# EAGLE library part MUSES72320 (library gael)
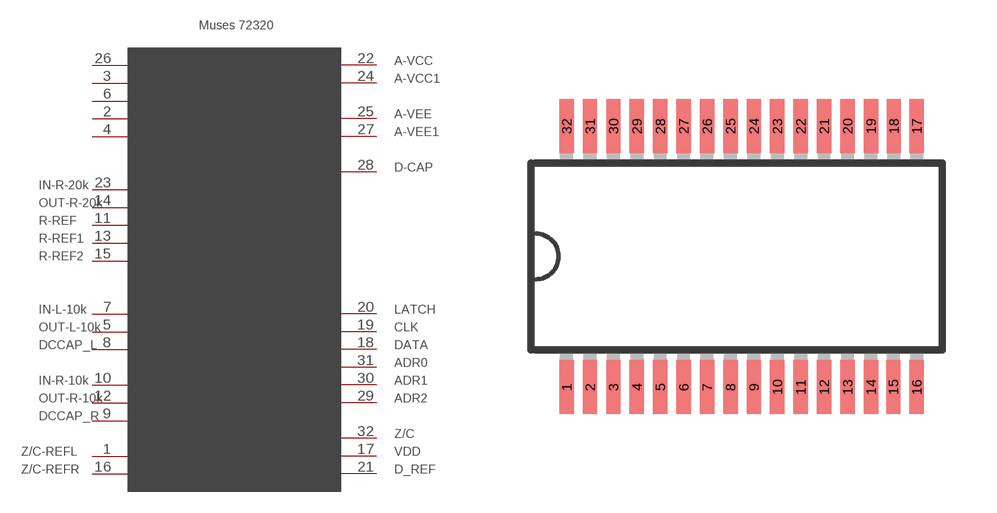
[diagram p4: symbol with the pads of SSOP32; footprint SSOP32]

Designator prefix -

## MUSES72320  [SSOP32]
1  P$1
2  P$2
3  P$3
4  P$4
5  P$5
6  P$6
7  P$7
8  P$8
9  P$9
10  P$10
11  P$11
12  P$12
13  P$13
14  P$14
15  P$15
16  P$16
17  P$17
18  P$18
19  P$19
20  P$20
21  P$21
22  P$22
23  P$23
24  P$24
25  P$25
26  P$26
27  P$27
28  P$28
29  P$29
30  P$30
31  P$31
32  P$32

## Footprint SSOP32 (pad centres in mm)
smd 0.4 x 1.5: 1 0.855,-1.085; 2 1.505,-1.085; 3 2.155,-1.085; 4 2.805,-1.085; 5 3.455,-1.085; 6 4.105,-1.085; 7 4.755,-1.085; 8 5.405,-1.085; 9 6.055,-1.085; 10 6.705,-1.085; 11 7.355,-1.085; 12 8.005,-1.085; 13 8.655,-1.085; 14 9.305,-1.085; 15 9.925,-1.085; 16 10.575,-1.085; 17 10.575,6.165; 18 9.94,6.165; 19 9.305,6.165; 20 8.655,6.165; 21 8.005,6.165; 22 7.355,6.165; 23 6.705,6.165; 24 6.055,6.165; 25 5.405,6.165; 26 4.755,6.165; 27 4.105,6.165; 28 3.455,6.165; 29 2.805,6.165; 30 2.155,6.165; 31 1.505,6.165; 32 0.855,6.165